# EAGLE library part ADG3304 (library Spectron2)
Low Voltage, 1.15 V to 5.5 V, 4-Channel, Bidirectional Logic Level Translator
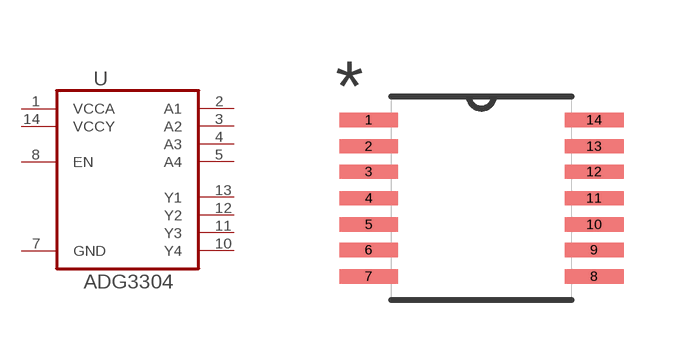
[diagram p4: symbol with the pads of SOP65P640X120-14N; footprint SOP65P640X120-14N]

Designator prefix U

## ADG3304 (MPN: ADG3304; OC_FARNELL: 1078228; OC_NEWARK: 19M0672; PACKAGE: TSSOP-14; SUPPLIER: Analog Devices)  [SOP65P640X120-14N]
1  VCCA  pwr
2  A1
3  A2
4  A3
5  A4
7  GND  pwr
8  EN  in
10  Y4
11  Y3
12  Y2
13  Y1
14  VCCY  pwr

## Footprint SOP65P640X120-14N (pad centres in mm)
smd 1.473 x 0.356: 1 -2.819,1.956; 2 -2.819,1.295; 3 -2.819,0.66; 4 -2.819,0; 5 -2.819,-0.66; 6 -2.819,-1.295; 7 -2.819,-1.956; 8 2.819,-1.956; 9 2.819,-1.295; 10 2.819,-0.66; 11 2.819,0; 12 2.819,0.66; 13 2.819,1.295; 14 2.819,1.956